# Altium integrated library WCAP-PTG5_rev15a.intlib: 32 symbols
Pins are listed as number, name and electrical type; pins without a type are passive.

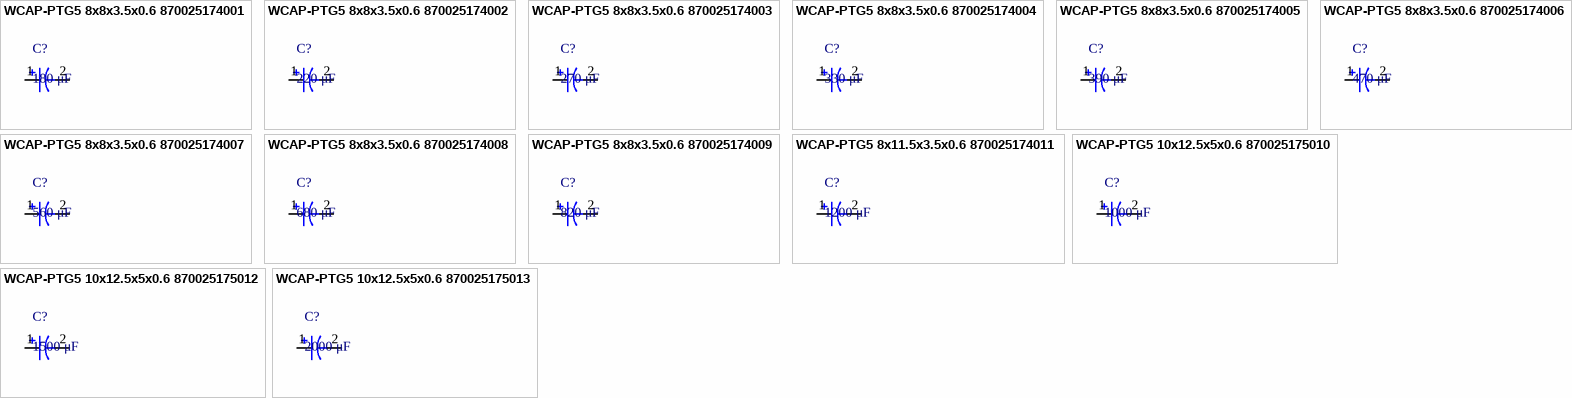
[diagram p0: symbols WCAP-PTG5 8x8x3.5x0.6 870025174001 to WCAP-PTG5 10x12.5x5x0.6 870025175013]

## WCAP-PTG5 8x8x3.5x0.6 870025174001
designator C?, comment 180 μF
WCAP-PTG5 Aluminum Polymer Capacitors , 180 μF; + / - 20%; 6,3 V , 8 x 8; Manufacturer: Wurth Elektronik; partNo: 870025174001; E-mail: libraries@we-online.com; Characteristics: Aluminum Polymer Capacitors; Recommended soldering: Wave ;Operating temperature: –55 °C to +105 °C ; Low ESR at high frequency range; High permissible ripple current; Long life: 2000 h @ +105 °C; ComponentLink1Description: Manufacturer; ComponentLink1URL: http://www.we-online.com; ComponentLink2Description: Datasheet; ComponentLink2URL: http://katalog.we-online.de/pbs/datasheet/870025174001.pdf; Created by: Karrer Zheng; Created Date: 5/13/2015; Capacitance: 180 μF; Application: Low voltage port filtering, appplid to high-end switching power supply, PC(desktop,laptop ),industrial computer, VGA card, server power, charger, TV, digital set-top box,DC-DC power module, game machine etc which consume large current with high speed circuit.
footprint WCAP-PTG5 8x8x3.5x0.6
pins: 1, 2

## WCAP-PTG5 8x8x3.5x0.6 870025174002
designator C?, comment 220 μF
WCAP-PTG5 Aluminum Polymer Capacitors , 220 μF; + / - 20%; 6,3 V , 8 x 8; Manufacturer: Wurth Elektronik; partNo: 870025174002; E-mail: libraries@we-online.com; Characteristics: Aluminum Polymer Capacitors; Recommended soldering: Wave ;Operating temperature: –55 °C to +105 °C ; Low ESR at high frequency range; High permissible ripple current; Long life: 2000 h @ +105 °C; ComponentLink1Description: Manufacturer; ComponentLink1URL: http://www.we-online.com; ComponentLink2Description: Datasheet; ComponentLink2URL: http://katalog.we-online.de/pbs/datasheet/870025174002.pdf; Created by: Karrer Zheng; Created Date: 5/13/2015; Capacitance: 220 μF; Application: Low voltage port filtering, appplid to high-end switching power supply, PC(desktop,laptop ),industrial computer, VGA card, server power, charger, TV, digital set-top box,DC-DC power module, game machine etc which consume large current with high speed circuit.
footprint WCAP-PTG5 8x8x3.5x0.6
pins: 1, 2

## WCAP-PTG5 8x8x3.5x0.6 870025174003
designator C?, comment 270 μF
WCAP-PTG5 Aluminum Polymer Capacitors , 270 μF; + / - 20%; 6,3 V , 8 x 8; Manufacturer: Wurth Elektronik; partNo: 870025174003; E-mail: libraries@we-online.com; Characteristics: Aluminum Polymer Capacitors; Recommended soldering: Wave ;Operating temperature: –55 °C to +105 °C ; Low ESR at high frequency range; High permissible ripple current; Long life: 2000 h @ +105 °C; ComponentLink1Description: Manufacturer; ComponentLink1URL: http://www.we-online.com; ComponentLink2Description: Datasheet; ComponentLink2URL: http://katalog.we-online.de/pbs/datasheet/870025174003.pdf; Created by: Karrer Zheng; Created Date: 5/13/2015; Capacitance: 270 μF; Application: Low voltage port filtering, appplid to high-end switching power supply, PC(desktop,laptop ),industrial computer, VGA card, server power, charger, TV, digital set-top box,DC-DC power module, game machine etc which consume large current with high speed circuit.
footprint WCAP-PTG5 8x8x3.5x0.6
pins: 1, 2

## WCAP-PTG5 8x8x3.5x0.6 870025174004
designator C?, comment 330 μF
WCAP-PTG5 Aluminum Polymer Capacitors , 330 μF; + / - 20%; 6,3 V , 8 x 8; Manufacturer: Wurth Elektronik; partNo: 870025174004; E-mail: libraries@we-online.com; Characteristics: Aluminum Polymer Capacitors; Recommended soldering: Wave ;Operating temperature: –55 °C to +105 °C ; Low ESR at high frequency range; High permissible ripple current; Long life: 2000 h @ +105 °C; ComponentLink1Description: Manufacturer; ComponentLink1URL: http://www.we-online.com; ComponentLink2Description: Datasheet; ComponentLink2URL: http://katalog.we-online.de/pbs/datasheet/870025174004.pdf; Created by: Karrer Zheng; Created Date: 5/13/2015; Capacitance: 330 μF; Application: Low voltage port filtering, appplid to high-end switching power supply, PC(desktop,laptop ),industrial computer, VGA card, server power, charger, TV, digital set-top box,DC-DC power module, game machine etc which consume large current with high speed circuit.
footprint WCAP-PTG5 8x8x3.5x0.6
pins: 1, 2

## WCAP-PTG5 8x8x3.5x0.6 870025174005
designator C?, comment 390 μF
WCAP-PTG5 Aluminum Polymer Capacitors , 390 μF; + / - 20%; 6,3 V , 8 x 8; Manufacturer: Wurth Elektronik; partNo: 870025174005; E-mail: libraries@we-online.com; Characteristics: Aluminum Polymer Capacitors; Recommended soldering: Wave ;Operating temperature: –55 °C to +105 °C ; Low ESR at high frequency range; High permissible ripple current; Long life: 2000 h @ +105 °C; ComponentLink1Description: Manufacturer; ComponentLink1URL: http://www.we-online.com; ComponentLink2Description: Datasheet; ComponentLink2URL: http://katalog.we-online.de/pbs/datasheet/870025174005.pdf; Created by: Karrer Zheng; Created Date: 5/13/2015; Capacitance: 390 μF; Application: Low voltage port filtering, appplid to high-end switching power supply, PC(desktop,laptop ),industrial computer, VGA card, server power, charger, TV, digital set-top box,DC-DC power module, game machine etc which consume large current with high speed circuit.
footprint WCAP-PTG5 8x8x3.5x0.6
pins: 1, 2

## WCAP-PTG5 8x8x3.5x0.6 870025174006
designator C?, comment 470 μF
WCAP-PTG5 Aluminum Polymer Capacitors , 470 μF; + / - 20%; 6,3 V , 8 x 8; Manufacturer: Wurth Elektronik; partNo: 870025174006; E-mail: libraries@we-online.com; Characteristics: Aluminum Polymer Capacitors; Recommended soldering: Wave ;Operating temperature: –55 °C to +105 °C ; Low ESR at high frequency range; High permissible ripple current; Long life: 2000 h @ +105 °C; ComponentLink1Description: Manufacturer; ComponentLink1URL: http://www.we-online.com; ComponentLink2Description: Datasheet; ComponentLink2URL: http://katalog.we-online.de/pbs/datasheet/870025174006.pdf; Created by: Karrer Zheng; Created Date: 5/13/2015; Capacitance: 470 μF; Application: Low voltage port filtering, appplid to high-end switching power supply, PC(desktop,laptop ),industrial computer, VGA card, server power, charger, TV, digital set-top box,DC-DC power module, game machine etc which consume large current with high speed circuit.
footprint WCAP-PTG5 8x8x3.5x0.6
pins: 1, 2

## WCAP-PTG5 8x8x3.5x0.6 870025174007
designator C?, comment 560 μF
WCAP-PTG5 Aluminum Polymer Capacitors , 560 μF; + / - 20%; 6,3 V , 8 x 8; Manufacturer: Wurth Elektronik; partNo: 870025174007; E-mail: libraries@we-online.com; Characteristics: Aluminum Polymer Capacitors; Recommended soldering: Wave ;Operating temperature: –55 °C to +105 °C ; Low ESR at high frequency range; High permissible ripple current; Long life: 2000 h @ +105 °C; ComponentLink1Description: Manufacturer; ComponentLink1URL: http://www.we-online.com; ComponentLink2Description: Datasheet; ComponentLink2URL: http://katalog.we-online.de/pbs/datasheet/870025174007.pdf; Created by: Karrer Zheng; Created Date: 5/13/2015; Capacitance: 560 μF; Application: Low voltage port filtering, appplid to high-end switching power supply, PC(desktop,laptop ),industrial computer, VGA card, server power, charger, TV, digital set-top box,DC-DC power module, game machine etc which consume large current with high speed circuit.
footprint WCAP-PTG5 8x8x3.5x0.6
pins: 1, 2

## WCAP-PTG5 8x8x3.5x0.6 870025174008
designator C?, comment 680 μF
WCAP-PTG5 Aluminum Polymer Capacitors , 680 μF; + / - 20%; 6,3 V , 8 x 8; Manufacturer: Wurth Elektronik; partNo: 870025174008; E-mail: libraries@we-online.com; Characteristics: Aluminum Polymer Capacitors; Recommended soldering: Wave ;Operating temperature: –55 °C to +105 °C ; Low ESR at high frequency range; High permissible ripple current; Long life: 2000 h @ +105 °C; ComponentLink1Description: Manufacturer; ComponentLink1URL: http://www.we-online.com; ComponentLink2Description: Datasheet; ComponentLink2URL: http://katalog.we-online.de/pbs/datasheet/870025174008.pdf; Created by: Karrer Zheng; Created Date: 5/13/2015; Capacitance: 680 μF; Application: Low voltage port filtering, appplid to high-end switching power supply, PC(desktop,laptop ),industrial computer, VGA card, server power, charger, TV, digital set-top box,DC-DC power module, game machine etc which consume large current with high speed circuit.
footprint WCAP-PTG5 8x8x3.5x0.6
pins: 1, 2

## WCAP-PTG5 8x8x3.5x0.6 870025174009
designator C?, comment 820 μF
WCAP-PTG5 Aluminum Polymer Capacitors , 820 μF; + / - 20%; 6,3 V , 8 x 8; Manufacturer: Wurth Elektronik; partNo: 870025174009; E-mail: libraries@we-online.com; Characteristics: Aluminum Polymer Capacitors; Recommended soldering: Wave ;Operating temperature: –55 °C to +105 °C ; Low ESR at high frequency range; High permissible ripple current; Long life: 2000 h @ +105 °C; ComponentLink1Description: Manufacturer; ComponentLink1URL: http://www.we-online.com; ComponentLink2Description: Datasheet; ComponentLink2URL: http://katalog.we-online.de/pbs/datasheet/870025174009.pdf; Created by: Karrer Zheng; Created Date: 5/13/2015; Capacitance: 820 μF; Application: Low voltage port filtering, appplid to high-end switching power supply, PC(desktop,laptop ),industrial computer, VGA card, server power, charger, TV, digital set-top box,DC-DC power module, game machine etc which consume large current with high speed circuit.
footprint WCAP-PTG5 8x8x3.5x0.6
pins: 1, 2

## WCAP-PTG5 8x11.5x3.5x0.6 870025174011
designator C?, comment 1200 μF
WCAP-PTG5 Aluminum Polymer Capacitors , 1200 μF; + / - 20%; 6,3 V , 8 x 11,5; Manufacturer: Wurth Elektronik; partNo: 870025174011; E-mail: libraries@we-online.com; Characteristics: Aluminum Polymer Capacitors; Recommended soldering: Wave ;Operating temperature: –55 °C to +105 °C ; Low ESR at high frequency range; High permissible ripple current; Long life: 2000 h @ +105 °C; ComponentLink1Description: Manufacturer; ComponentLink1URL: http://www.we-online.com; ComponentLink2Description: Datasheet; ComponentLink2URL: http://katalog.we-online.de/pbs/datasheet/870025174011.pdf; Created by: Karrer Zheng; Created Date: 5/13/2015; Capacitance: 1200 μF; Application: Low voltage port filtering, appplid to high-end switching power supply, PC(desktop,laptop ),industrial computer, VGA card, server power, charger, TV, digital set-top box,DC-DC power module, game machine etc which consume large current with high speed circuit.
footprint WCAP-PTG5 8x11.5x3.5x0.6
pins: 1, 2

## WCAP-PTG5 10x12.5x5x0.6 870025175010
designator C?, comment 1000 μF
WCAP-PTG5 Aluminum Polymer Capacitors , 1000 μF; + / - 20%; 6,3 V , 10 x 12,5; Manufacturer: Wurth Elektronik; partNo: 870025175010; E-mail: libraries@we-online.com; Characteristics: Aluminum Polymer Capacitors; Recommended soldering: Wave ;Operating temperature: –55 °C to +105 °C ; Low ESR at high frequency range; High permissible ripple current; Long life: 2000 h @ +105 °C; ComponentLink1Description: Manufacturer; ComponentLink1URL: http://www.we-online.com; ComponentLink2Description: Datasheet; ComponentLink2URL: http://katalog.we-online.de/pbs/datasheet/870025175010.pdf; Created by: Karrer Zheng; Created Date: 5/13/2015; Capacitance: 1000 μF; Application: Low voltage port filtering, appplid to high-end switching power supply, PC(desktop,laptop ),industrial computer, VGA card, server power, charger, TV, digital set-top box,DC-DC power module, game machine etc which consume large current with high speed circuit.
footprint WCAP-PTG5 10x12.5x5x0.6
pins: 1, 2

## WCAP-PTG5 10x12.5x5x0.6 870025175012
designator C?, comment 1500 μF
WCAP-PTG5 Aluminum Polymer Capacitors , 1500 μF; + / - 20%; 6,3 V , 10 x 12,5; Manufacturer: Wurth Elektronik; partNo: 870025175012; E-mail: libraries@we-online.com; Characteristics: Aluminum Polymer Capacitors; Recommended soldering: Wave ;Operating temperature: –55 °C to +105 °C ; Low ESR at high frequency range; High permissible ripple current; Long life: 2000 h @ +105 °C; ComponentLink1Description: Manufacturer; ComponentLink1URL: http://www.we-online.com; ComponentLink2Description: Datasheet; ComponentLink2URL: http://katalog.we-online.de/pbs/datasheet/870025175012.pdf; Created by: Karrer Zheng; Created Date: 5/13/2015; Capacitance: 1500 μF; Application: Low voltage port filtering, appplid to high-end switching power supply, PC(desktop,laptop ),industrial computer, VGA card, server power, charger, TV, digital set-top box,DC-DC power module, game machine etc which consume large current with high speed circuit.
footprint WCAP-PTG5 10x12.5x5x0.6
pins: 1, 2

## WCAP-PTG5 10x12.5x5x0.6 870025175013
designator C?, comment 2000 μF
WCAP-PTG5 Aluminum Polymer Capacitors , 2000 μF; + / - 20%; 6,3 V , 10 x 12,5; Manufacturer: Wurth Elektronik; partNo: 870025175013; E-mail: libraries@we-online.com; Characteristics: Aluminum Polymer Capacitors; Recommended soldering: Wave ;Operating temperature: –55 °C to +105 °C ; Low ESR at high frequency range; High permissible ripple current; Long life: 2000 h @ +105 °C; ComponentLink1Description: Manufacturer; ComponentLink1URL: http://www.we-online.com; ComponentLink2Description: Datasheet; ComponentLink2URL: http://katalog.we-online.de/pbs/datasheet/870025175013.pdf; Created by: Karrer Zheng; Created Date: 5/13/2015; Capacitance: 2000 μF; Application: Low voltage port filtering, appplid to high-end switching power supply, PC(desktop,laptop ),industrial computer, VGA card, server power, charger, TV, digital set-top box,DC-DC power module, game machine etc which consume large current with high speed circuit.
footprint WCAP-PTG5 10x12.5x5x0.6
pins: 1, 2


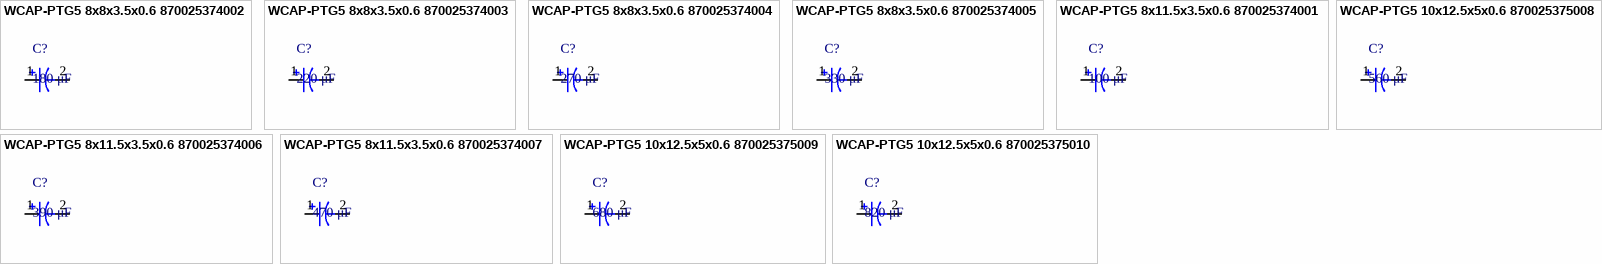
[diagram p1: symbols WCAP-PTG5 8x8x3.5x0.6 870025374002 to WCAP-PTG5 10x12.5x5x0.6 870025375010]

## WCAP-PTG5 8x8x3.5x0.6 870025374002
designator C?, comment 180 μF
WCAP-PTG5 Aluminum Polymer Capacitors , 180 μF; + / - 20%; 16 V , 8 x 8; Manufacturer: Wurth Elektronik; partNo: 870025374002; E-mail: libraries@we-online.com; Characteristics: Aluminum Polymer Capacitors; Recommended soldering: Wave ;Operating temperature: –55 °C to +105 °C ; Low ESR at high frequency range; High permissible ripple current; Long life: 2000 h @ +105 °C; ComponentLink1Description: Manufacturer; ComponentLink1URL: http://www.we-online.com; ComponentLink2Description: Datasheet; ComponentLink2URL: http://katalog.we-online.de/pbs/datasheet/870025374002.pdf; Created by: Karrer Zheng; Created Date: 5/13/2015; Capacitance: 180 μF; Application: Low voltage port filtering, appplid to high-end switching power supply, PC(desktop,laptop ),industrial computer, VGA card, server power, charger, TV, digital set-top box,DC-DC power module, game machine etc which consume large current with high speed circuit.
footprint WCAP-PTG5 8x8x3.5x0.6
pins: 1, 2

## WCAP-PTG5 8x8x3.5x0.6 870025374003
designator C?, comment 220 μF
WCAP-PTG5 Aluminum Polymer Capacitors , 220 μF; + / - 20%; 16 V , 8 x 8; Manufacturer: Wurth Elektronik; partNo: 870025374003; E-mail: libraries@we-online.com; Characteristics: Aluminum Polymer Capacitors; Recommended soldering: Wave ;Operating temperature: –55 °C to +105 °C ; Low ESR at high frequency range; High permissible ripple current; Long life: 2000 h @ +105 °C; ComponentLink1Description: Manufacturer; ComponentLink1URL: http://www.we-online.com; ComponentLink2Description: Datasheet; ComponentLink2URL: http://katalog.we-online.de/pbs/datasheet/870025374003.pdf; Created by: Karrer Zheng; Created Date: 5/13/2015; Capacitance: 220 μF; Application: Low voltage port filtering, appplid to high-end switching power supply, PC(desktop,laptop ),industrial computer, VGA card, server power, charger, TV, digital set-top box,DC-DC power module, game machine etc which consume large current with high speed circuit.
footprint WCAP-PTG5 8x8x3.5x0.6
pins: 1, 2

## WCAP-PTG5 8x8x3.5x0.6 870025374004
designator C?, comment 270 μF
WCAP-PTG5 Aluminum Polymer Capacitors , 270 μF; + / - 20%; 16 V , 8 x 8; Manufacturer: Wurth Elektronik; partNo: 870025374004; E-mail: libraries@we-online.com; Characteristics: Aluminum Polymer Capacitors; Recommended soldering: Wave ;Operating temperature: –55 °C to +105 °C ; Low ESR at high frequency range; High permissible ripple current; Long life: 2000 h @ +105 °C; ComponentLink1Description: Manufacturer; ComponentLink1URL: http://www.we-online.com; ComponentLink2Description: Datasheet; ComponentLink2URL: http://katalog.we-online.de/pbs/datasheet/870025374004.pdf; Created by: Karrer Zheng; Created Date: 5/13/2015; Capacitance: 270 μF; Application: Low voltage port filtering, appplid to high-end switching power supply, PC(desktop,laptop ),industrial computer, VGA card, server power, charger, TV, digital set-top box,DC-DC power module, game machine etc which consume large current with high speed circuit.
footprint WCAP-PTG5 8x8x3.5x0.6
pins: 1, 2

## WCAP-PTG5 8x8x3.5x0.6 870025374005
designator C?, comment 330 μF
WCAP-PTG5 Aluminum Polymer Capacitors , 330 μF; + / - 20%; 16 V , 8 x 8; Manufacturer: Wurth Elektronik; partNo: 870025374005; E-mail: libraries@we-online.com; Characteristics: Aluminum Polymer Capacitors; Recommended soldering: Wave ;Operating temperature: –55 °C to +105 °C ; Low ESR at high frequency range; High permissible ripple current; Long life: 2000 h @ +105 °C; ComponentLink1Description: Manufacturer; ComponentLink1URL: http://www.we-online.com; ComponentLink2Description: Datasheet; ComponentLink2URL: http://katalog.we-online.de/pbs/datasheet/870025374005.pdf; Created by: Karrer Zheng; Created Date: 5/13/2015; Capacitance: 330 μF; Application: Low voltage port filtering, appplid to high-end switching power supply, PC(desktop,laptop ),industrial computer, VGA card, server power, charger, TV, digital set-top box,DC-DC power module, game machine etc which consume large current with high speed circuit.
footprint WCAP-PTG5 8x8x3.5x0.6
pins: 1, 2

## WCAP-PTG5 8x11.5x3.5x0.6 870025374001
designator C?, comment 100 μF
WCAP-PTG5 Aluminum Polymer Capacitors , 100 μF; + / - 20%; 16 V , 8 x 11,5; Manufacturer: Wurth Elektronik; partNo: 870025374001; E-mail: libraries@we-online.com; Characteristics: Aluminum Polymer Capacitors; Recommended soldering: Wave ;Operating temperature: –55 °C to +105 °C ; Low ESR at high frequency range; High permissible ripple current; Long life: 2000 h @ +105 °C; ComponentLink1Description: Manufacturer; ComponentLink1URL: http://www.we-online.com; ComponentLink2Description: Datasheet; ComponentLink2URL: http://katalog.we-online.de/pbs/datasheet/870025374001.pdf; Created by: Karrer Zheng; Created Date: 5/13/2015; Capacitance: 100 μF; Application: Low voltage port filtering, appplid to high-end switching power supply, PC(desktop,laptop ),industrial computer, VGA card, server power, charger, TV, digital set-top box,DC-DC power module, game machine etc which consume large current with high speed circuit.
footprint WCAP-PTG5 8x11.5x3.5x0.6
pins: 1, 2

## WCAP-PTG5 8x11.5x3.5x0.6 870025374006
designator C?, comment 390 μF
WCAP-PTG5 Aluminum Polymer Capacitors , 390 μF; + / - 20%; 16 V , 8 x 11,5; Manufacturer: Wurth Elektronik; partNo: 870025374006; E-mail: libraries@we-online.com; Characteristics: Aluminum Polymer Capacitors; Recommended soldering: Wave ;Operating temperature: –55 °C to +105 °C ; Low ESR at high frequency range; High permissible ripple current; Long life: 2000 h @ +105 °C; ComponentLink1Description: Manufacturer; ComponentLink1URL: http://www.we-online.com; ComponentLink2Description: Datasheet; ComponentLink2URL: http://katalog.we-online.de/pbs/datasheet/870025374006.pdf; Created by: Karrer Zheng; Created Date: 5/13/2015; Capacitance: 390 μF; Application: Low voltage port filtering, appplid to high-end switching power supply, PC(desktop,laptop ),industrial computer, VGA card, server power, charger, TV, digital set-top box,DC-DC power module, game machine etc which consume large current with high speed circuit.
footprint WCAP-PTG5 8x11.5x3.5x0.6
pins: 1, 2

## WCAP-PTG5 8x11.5x3.5x0.6 870025374007
designator C?, comment 470 μF
WCAP-PTG5 Aluminum Polymer Capacitors , 470 μF; + / - 20%; 16 V , 8 x 11,5; Manufacturer: Wurth Elektronik; partNo: 870025374007; E-mail: libraries@we-online.com; Characteristics: Aluminum Polymer Capacitors; Recommended soldering: Wave ;Operating temperature: –55 °C to +105 °C ; Low ESR at high frequency range; High permissible ripple current; Long life: 2000 h @ +105 °C; ComponentLink1Description: Manufacturer; ComponentLink1URL: http://www.we-online.com; ComponentLink2Description: Datasheet; ComponentLink2URL: http://katalog.we-online.de/pbs/datasheet/870025374007.pdf; Created by: Karrer Zheng; Created Date: 5/13/2015; Capacitance: 470 μF; Application: Low voltage port filtering, appplid to high-end switching power supply, PC(desktop,laptop ),industrial computer, VGA card, server power, charger, TV, digital set-top box,DC-DC power module, game machine etc which consume large current with high speed circuit.
footprint WCAP-PTG5 8x11.5x3.5x0.6
pins: 1, 2

## WCAP-PTG5 10x12.5x5x0.6 870025375008
designator C?, comment 560 μF
WCAP-PTG5 Aluminum Polymer Capacitors , 560 μF; + / - 20%; 16 V , 10 x 12,5; Manufacturer: Wurth Elektronik; partNo: 870025375008; E-mail: libraries@we-online.com; Characteristics: Aluminum Polymer Capacitors; Recommended soldering: Wave ;Operating temperature: –55 °C to +105 °C ; Low ESR at high frequency range; High permissible ripple current; Long life: 2000 h @ +105 °C; ComponentLink1Description: Manufacturer; ComponentLink1URL: http://www.we-online.com; ComponentLink2Description: Datasheet; ComponentLink2URL: http://katalog.we-online.de/pbs/datasheet/870025375008.pdf; Created by: Karrer Zheng; Created Date: 5/13/2015; Capacitance: 560 μF; Application: Low voltage port filtering, appplid to high-end switching power supply, PC(desktop,laptop ),industrial computer, VGA card, server power, charger, TV, digital set-top box,DC-DC power module, game machine etc which consume large current with high speed circuit.
footprint WCAP-PTG5 10x12.5x5x0.6
pins: 1, 2

## WCAP-PTG5 10x12.5x5x0.6 870025375009
designator C?, comment 680 μF
WCAP-PTG5 Aluminum Polymer Capacitors , 680 μF; + / - 20%; 16 V , 10 x 12,5; Manufacturer: Wurth Elektronik; partNo: 870025375009; E-mail: libraries@we-online.com; Characteristics: Aluminum Polymer Capacitors; Recommended soldering: Wave ;Operating temperature: –55 °C to +105 °C ; Low ESR at high frequency range; High permissible ripple current; Long life: 2000 h @ +105 °C; ComponentLink1Description: Manufacturer; ComponentLink1URL: http://www.we-online.com; ComponentLink2Description: Datasheet; ComponentLink2URL: http://katalog.we-online.de/pbs/datasheet/870025375009.pdf; Created by: Karrer Zheng; Created Date: 5/13/2015; Capacitance: 680 μF; Application: Low voltage port filtering, appplid to high-end switching power supply, PC(desktop,laptop ),industrial computer, VGA card, server power, charger, TV, digital set-top box,DC-DC power module, game machine etc which consume large current with high speed circuit.
footprint WCAP-PTG5 10x12.5x5x0.6
pins: 1, 2

## WCAP-PTG5 10x12.5x5x0.6 870025375010
designator C?, comment 820 μF
WCAP-PTG5 Aluminum Polymer Capacitors , 820 μF; + / - 20%; 16 V , 10 x 12,5; Manufacturer: Wurth Elektronik; partNo: 870025375010; E-mail: libraries@we-online.com; Characteristics: Aluminum Polymer Capacitors; Recommended soldering: Wave ;Operating temperature: –55 °C to +105 °C ; Low ESR at high frequency range; High permissible ripple current; Long life: 2000 h @ +105 °C; ComponentLink1Description: Manufacturer; ComponentLink1URL: http://www.we-online.com; ComponentLink2Description: Datasheet; ComponentLink2URL: http://katalog.we-online.de/pbs/datasheet/870025375010.pdf; Created by: Karrer Zheng; Created Date: 5/13/2015; Capacitance: 820 μF; Application: Low voltage port filtering, appplid to high-end switching power supply, PC(desktop,laptop ),industrial computer, VGA card, server power, charger, TV, digital set-top box,DC-DC power module, game machine etc which consume large current with high speed circuit.
footprint WCAP-PTG5 10x12.5x5x0.6
pins: 1, 2


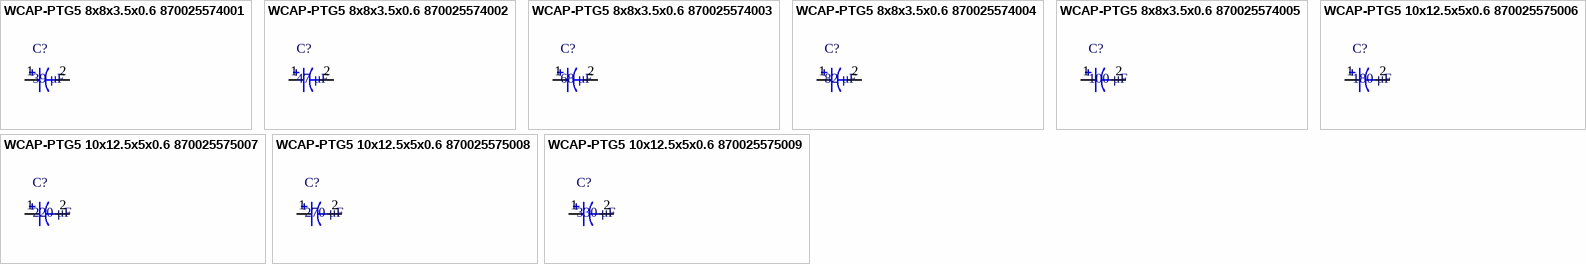
[diagram p2: symbols WCAP-PTG5 8x8x3.5x0.6 870025574001 to WCAP-PTG5 10x12.5x5x0.6 870025575009]

## WCAP-PTG5 8x8x3.5x0.6 870025574001
designator C?, comment 39 μF
WCAP-PTG5 Aluminum Polymer Capacitors , 39 μF; + / - 20%; 25 V , 8 x 8; Manufacturer: Wurth Elektronik; partNo: 870025574001; E-mail: libraries@we-online.com; Characteristics: Aluminum Polymer Capacitors; Recommended soldering: Wave ;Operating temperature: –55 °C to +105 °C ; Low ESR at high frequency range; High permissible ripple current; Long life: 2000 h @ +105 °C; ComponentLink1Description: Manufacturer; ComponentLink1URL: http://www.we-online.com; ComponentLink2Description: Datasheet; ComponentLink2URL: http://katalog.we-online.de/pbs/datasheet/870025574001.pdf; Created by: Karrer Zheng; Created Date: 5/13/2015; Capacitance: 39 μF; Application: Low voltage port filtering, appplid to high-end switching power supply, PC(desktop,laptop ),industrial computer, VGA card, server power, charger, TV, digital set-top box,DC-DC power module, game machine etc which consume large current with high speed circuit.
footprint WCAP-PTG5 8x8x3.5x0.6
pins: 1, 2

## WCAP-PTG5 8x8x3.5x0.6 870025574002
designator C?, comment 47 μF
WCAP-PTG5 Aluminum Polymer Capacitors , 47 μF; + / - 20%; 25 V , 8 x 8; Manufacturer: Wurth Elektronik; partNo: 870025574002; E-mail: libraries@we-online.com; Characteristics: Aluminum Polymer Capacitors; Recommended soldering: Wave ;Operating temperature: –55 °C to +105 °C ; Low ESR at high frequency range; High permissible ripple current; Long life: 2000 h @ +105 °C; ComponentLink1Description: Manufacturer; ComponentLink1URL: http://www.we-online.com; ComponentLink2Description: Datasheet; ComponentLink2URL: http://katalog.we-online.de/pbs/datasheet/870025574002.pdf; Created by: Karrer Zheng; Created Date: 5/13/2015; Capacitance: 47 μF; Application: Low voltage port filtering, appplid to high-end switching power supply, PC(desktop,laptop ),industrial computer, VGA card, server power, charger, TV, digital set-top box,DC-DC power module, game machine etc which consume large current with high speed circuit.
footprint WCAP-PTG5 8x8x3.5x0.6
pins: 1, 2

## WCAP-PTG5 8x8x3.5x0.6 870025574003
designator C?, comment 68 μF
WCAP-PTG5 Aluminum Polymer Capacitors , 68 μF; + / - 20%; 25 V , 8 x 8; Manufacturer: Wurth Elektronik; partNo: 870025574003; E-mail: libraries@we-online.com; Characteristics: Aluminum Polymer Capacitors; Recommended soldering: Wave ;Operating temperature: –55 °C to +105 °C ; Low ESR at high frequency range; High permissible ripple current; Long life: 2000 h @ +105 °C; ComponentLink1Description: Manufacturer; ComponentLink1URL: http://www.we-online.com; ComponentLink2Description: Datasheet; ComponentLink2URL: http://katalog.we-online.de/pbs/datasheet/870025574003.pdf; Created by: Karrer Zheng; Created Date: 5/13/2015; Capacitance: 68 μF; Application: Low voltage port filtering, appplid to high-end switching power supply, PC(desktop,laptop ),industrial computer, VGA card, server power, charger, TV, digital set-top box,DC-DC power module, game machine etc which consume large current with high speed circuit.
footprint WCAP-PTG5 8x8x3.5x0.6
pins: 1, 2

## WCAP-PTG5 8x8x3.5x0.6 870025574004
designator C?, comment 82 μF
WCAP-PTG5 Aluminum Polymer Capacitors , 82 μF; + / - 20%; 25 V , 8 x 8; Manufacturer: Wurth Elektronik; partNo: 870025574004; E-mail: libraries@we-online.com; Characteristics: Aluminum Polymer Capacitors; Recommended soldering: Wave ;Operating temperature: –55 °C to +105 °C ; Low ESR at high frequency range; High permissible ripple current; Long life: 2000 h @ +105 °C; ComponentLink1Description: Manufacturer; ComponentLink1URL: http://www.we-online.com; ComponentLink2Description: Datasheet; ComponentLink2URL: http://katalog.we-online.de/pbs/datasheet/870025574004.pdf; Created by: Karrer Zheng; Created Date: 5/13/2015; Capacitance: 82 μF; Application: Low voltage port filtering, appplid to high-end switching power supply, PC(desktop,laptop ),industrial computer, VGA card, server power, charger, TV, digital set-top box,DC-DC power module, game machine etc which consume large current with high speed circuit.
footprint WCAP-PTG5 8x8x3.5x0.6
pins: 1, 2

## WCAP-PTG5 8x8x3.5x0.6 870025574005
designator C?, comment 100 μF
WCAP-PTG5 Aluminum Polymer Capacitors , 100 μF; + / - 20%; 25 V , 8 x 8; Manufacturer: Wurth Elektronik; partNo: 870025574005; E-mail: libraries@we-online.com; Characteristics: Aluminum Polymer Capacitors; Recommended soldering: Wave ;Operating temperature: –55 °C to +105 °C ; Low ESR at high frequency range; High permissible ripple current; Long life: 2000 h @ +105 °C; ComponentLink1Description: Manufacturer; ComponentLink1URL: http://www.we-online.com; ComponentLink2Description: Datasheet; ComponentLink2URL: http://katalog.we-online.de/pbs/datasheet/870025574005.pdf; Created by: Karrer Zheng; Created Date: 5/13/2015; Capacitance: 100 μF; Application: Low voltage port filtering, appplid to high-end switching power supply, PC(desktop,laptop ),industrial computer, VGA card, server power, charger, TV, digital set-top box,DC-DC power module, game machine etc which consume large current with high speed circuit.
footprint WCAP-PTG5 8x8x3.5x0.6
pins: 1, 2

## WCAP-PTG5 10x12.5x5x0.6 870025575006
designator C?, comment 180 μF
WCAP-PTG5 Aluminum Polymer Capacitors , 180 μF; + / - 20%; 25 V , 10 x 12,5; Manufacturer: Wurth Elektronik; partNo: 870025575006; E-mail: libraries@we-online.com; Characteristics: Aluminum Polymer Capacitors; Recommended soldering: Wave ;Operating temperature: –55 °C to +105 °C ; Low ESR at high frequency range; High permissible ripple current; Long life: 2000 h @ +105 °C; ComponentLink1Description: Manufacturer; ComponentLink1URL: http://www.we-online.com; ComponentLink2Description: Datasheet; ComponentLink2URL: http://katalog.we-online.de/pbs/datasheet/870025575006.pdf; Created by: Karrer Zheng; Created Date: 5/13/2015; Capacitance: 180 μF; Application: Low voltage port filtering, appplid to high-end switching power supply, PC(desktop,laptop ),industrial computer, VGA card, server power, charger, TV, digital set-top box,DC-DC power module, game machine etc which consume large current with high speed circuit.
footprint WCAP-PTG5 10x12.5x5x0.6
pins: 1, 2

## WCAP-PTG5 10x12.5x5x0.6 870025575007
designator C?, comment 220 μF
WCAP-PTG5 Aluminum Polymer Capacitors , 220 μF; + / - 20%; 25 V , 10 x 12,5; Manufacturer: Wurth Elektronik; partNo: 870025575007; E-mail: libraries@we-online.com; Characteristics: Aluminum Polymer Capacitors; Recommended soldering: Wave ;Operating temperature: –55 °C to +105 °C ; Low ESR at high frequency range; High permissible ripple current; Long life: 2000 h @ +105 °C; ComponentLink1Description: Manufacturer; ComponentLink1URL: http://www.we-online.com; ComponentLink2Description: Datasheet; ComponentLink2URL: http://katalog.we-online.de/pbs/datasheet/870025575007.pdf; Created by: Karrer Zheng; Created Date: 5/13/2015; Capacitance: 220 μF; Application: Low voltage port filtering, appplid to high-end switching power supply, PC(desktop,laptop ),industrial computer, VGA card, server power, charger, TV, digital set-top box,DC-DC power module, game machine etc which consume large current with high speed circuit.
footprint WCAP-PTG5 10x12.5x5x0.6
pins: 1, 2

## WCAP-PTG5 10x12.5x5x0.6 870025575008
designator C?, comment 270 μF
WCAP-PTG5 Aluminum Polymer Capacitors , 270 μF; + / - 20%; 25 V , 10 x 12,5; Manufacturer: Wurth Elektronik; partNo: 870025575008; E-mail: libraries@we-online.com; Characteristics: Aluminum Polymer Capacitors; Recommended soldering: Wave ;Operating temperature: –55 °C to +105 °C ; Low ESR at high frequency range; High permissible ripple current; Long life: 2000 h @ +105 °C; ComponentLink1Description: Manufacturer; ComponentLink1URL: http://www.we-online.com; ComponentLink2Description: Datasheet; ComponentLink2URL: http://katalog.we-online.de/pbs/datasheet/870025575008.pdf; Created by: Karrer Zheng; Created Date: 5/13/2015; Capacitance: 270 μF; Application: Low voltage port filtering, appplid to high-end switching power supply, PC(desktop,laptop ),industrial computer, VGA card, server power, charger, TV, digital set-top box,DC-DC power module, game machine etc which consume large current with high speed circuit.
footprint WCAP-PTG5 10x12.5x5x0.6
pins: 1, 2

## WCAP-PTG5 10x12.5x5x0.6 870025575009
designator C?, comment 330 μF
WCAP-PTG5 Aluminum Polymer Capacitors , 330 μF; + / - 20%; 25 V , 10 x 12,5; Manufacturer: Wurth Elektronik; partNo: 870025575009; E-mail: libraries@we-online.com; Characteristics: Aluminum Polymer Capacitors; Recommended soldering: Wave ;Operating temperature: –55 °C to +105 °C ; Low ESR at high frequency range; High permissible ripple current; Long life: 2000 h @ +105 °C; ComponentLink1Description: Manufacturer; ComponentLink1URL: http://www.we-online.com; ComponentLink2Description: Datasheet; ComponentLink2URL: http://katalog.we-online.de/pbs/datasheet/870025575009.pdf; Created by: Karrer Zheng; Created Date: 5/13/2015; Capacitance: 330 μF; Application: Low voltage port filtering, appplid to high-end switching power supply, PC(desktop,laptop ),industrial computer, VGA card, server power, charger, TV, digital set-top box,DC-DC power module, game machine etc which consume large current with high speed circuit.
footprint WCAP-PTG5 10x12.5x5x0.6
pins: 1, 2